# EAGLE library part TRANS_NPN_DUAL (library Dennistries-Josh)
MMDT3904 Dual 3904 NPN transistors. Datasheet <http://www.onsemi.com/pub_link/Collateral/MBT3904DW1T1-D.PDF>
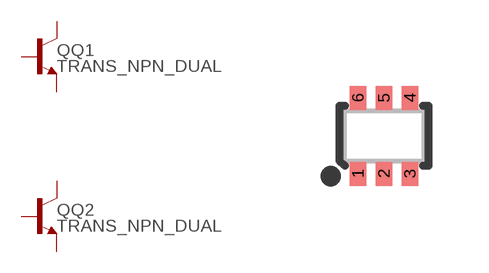
[diagram p55: symbol with the pads of SOT-363; footprint SOT-363]

Designator prefix Q; gates Q1=NPN-1 Q2=NPN-1

## TRANS_NPN_DUAL-MMDT3904 (PROD_ID: TRANS-13337)  [SOT-363]
1  Q2:E  pas
2  Q2:B  pas
3  Q1:C  pas
4  Q1:E  pas
5  Q1:B  pas
6  Q2:C  pas

## Footprint SOT-363 (pad centres in mm)
SC-88/SC70-6/SOT-363 6-pin Package Example Datasheet <http://www.onsemi.com/pub_link/Collateral/MBT3904DW1T1-D.PDF>
smd 0.42 x 0.6: 1 -0.65,-0.95; 2 0,-0.95; 3 0.65,-0.95; 4 0.65,0.95; 5 0,0.95; 6 -0.65,0.95